# EAGLE library part TPD4S014_DSQ_10 (library fabhack)
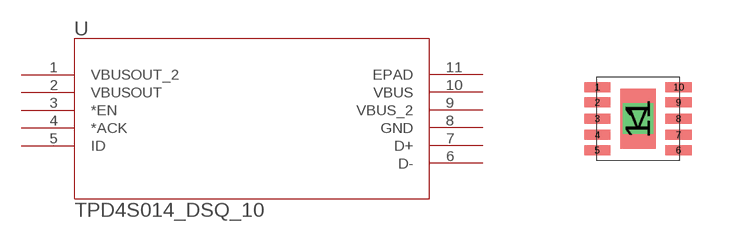
[diagram p6: symbol with the pads of DSQ10_1P5X0P9; footprint DSQ10_1P5X0P9]

Designator prefix U

## TPD4S014_DSQ_10  [DSQ10_1P5X0P9]
1  VBUSOUT_2  pas
2  VBUSOUT  pas
3  *EN  pas
4  *ACK  pas
5  ID  pas
6  D-  pas
7  D+  pas
8  GND  pas
9  VBUS_2  pas
10  VBUS  pas
11  EPAD  pas

## Footprint DSQ10_1P5X0P9 (pad centres in mm)
smd 0.66 x 0.254: 1 -1.016,0.787; 2 -1.016,0.406; 3 -1.016,0; 4 -1.016,-0.406; 5 -1.016,-0.787; 6 1.016,-0.787; 7 1.016,-0.406; 8 1.016,0; 9 1.016,0.406; 10 1.016,0.787
smd 0.889 x 1.499: 11 0,0
drill 0.254 square: V 0,0